# Altium schematic symbol library KEMET MLCC.SchLib: 2 symbols
Pins are listed as number, name and electrical type; pins without a type are passive.

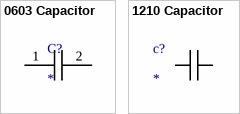
[diagram p0: symbols 0603 Capacitor to 1210 Capacitor]

## 0603 Capacitor
designator C?
Ceramic Capacitor 0603 Package
footprint 0603 (Generic package)
pins: 1, 2

## 1210 Capacitor
designator c?
C1210C107M8PACTU
footprint 1210
pins: 1, 2